# Altium schematic symbol library Lib Marius.SchLib: 259 symbols (part 2 of 3)
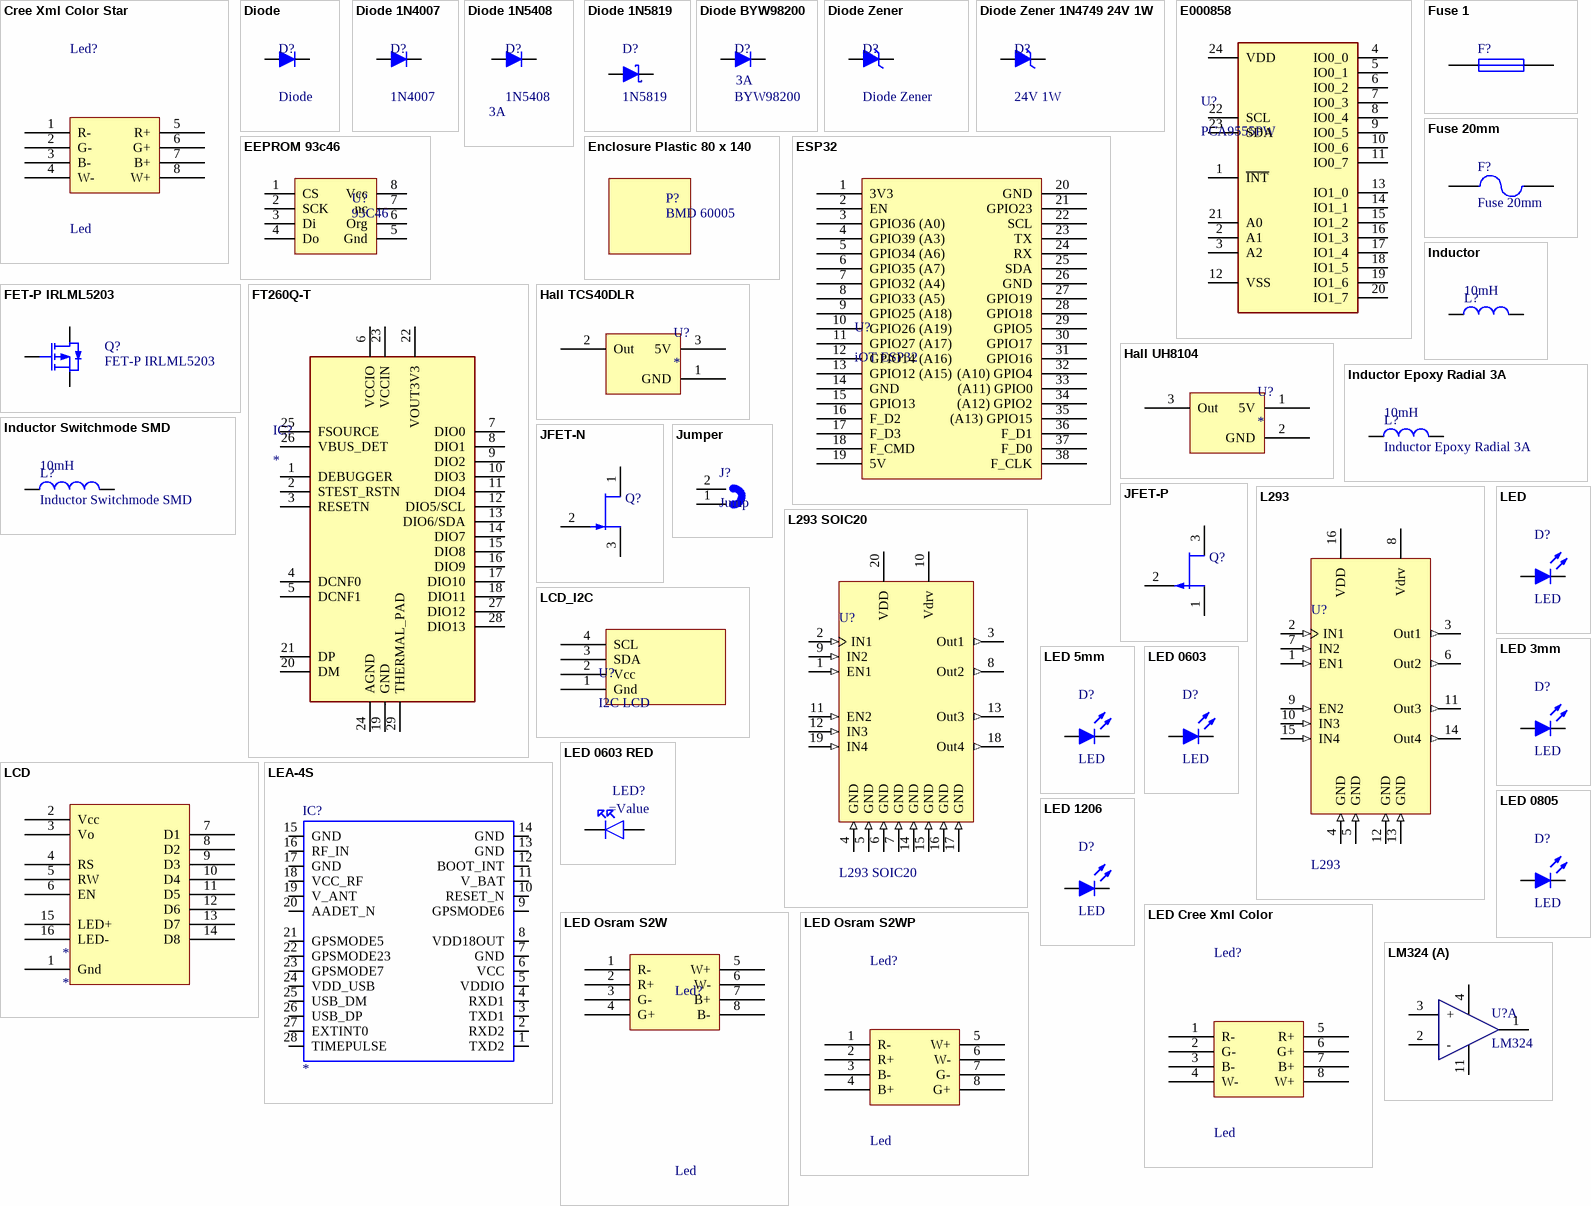
[diagram p7: symbols Cree Xml Color Star to LM324]

## Diode BYW98200
designator D?, comment BYW98200  value 3A
Rectifier Diode; Published: 8-Jun-2000; LatestRevisionDate: 17-Jul-2002; LatestRevisionNote: Re-released for DXP Platform.; PackageReference: SMB; Publisher: Altium Limited; PackageDescription: DO-214-AA/SMB; 2 C-Bend Leads; Body 5.3 x 3.6 mm, inc. leads (LxW); Code_JEDEC: DO-214-AA
footprint DIODE 12MM (Diode, Axial, DO-41)
footprint DIODE 7MM Vert (Diode, Thru-Hole; 2 Leads; 0.4 in Pin Spacing)
pins: 1 A, 2 K

## Diode Zener
designator D?
Zener Diode; Published: 8-Jun-2000; LatestRevisionDate: 17-Jul-2002; LatestRevisionNote: Re-released for DXP Platform.; PackageReference: SMB; Publisher: Altium Limited; PackageDescription: DO-214-AA/SMB; 2 C-Bend Leads; Body 5.3 x 3.6 mm, inc. leads (LxW); Code_JEDEC: DO-214-AA
simulation model SKYDIODE (Diode)
signal-integrity model D Schottky
footprint DIODE 12MM (Diode, Axial, DO-41)
footprint Diode SMD 0.5w (Metal Electrode Face (MELF) Diode; Body 3.5 x 1.7 mm (LxDia))
footprint Diode SMD 0805 (0805 Diode)
footprint DIODE SMD 1210
footprint DIODE SMD 1808
footprint DIODE 10.16MM (Diode, Thru-Hole; 2 Leads; 0.4 in Pin Spacing)
pins: 1 A, 2 K

## Diode Zener 1N4749 24V 1W
designator D?, comment 24V 1W
Zener Diode; Published: 8-Jun-2000; LatestRevisionDate: 17-Jul-2002; LatestRevisionNote: Re-released for DXP Platform.; PackageReference: SMB; Publisher: Altium Limited; PackageDescription: DO-214-AA/SMB; 2 C-Bend Leads; Body 5.3 x 3.6 mm, inc. leads (LxW); Code_JEDEC: DO-214-AA
simulation model SKYDIODE (Diode)
signal-integrity model D Schottky
footprint DIODE 7MM (Diode, Thru-Hole; 2 Leads; 0.4 in Pin Spacing)
pins: 1 A, 2 K

## E000858
designator U?, comment PCA9555PW
PCA9555PW I2C IO Expander; Manufacturer_Name: NXP; Manufacturer_Part_Number: PCA9555PW,112; Datasheet Link: http://at.rs-online.com/web/p/products/4837222P; Height: 1.1mm; RS Part Number: 4837222P; RS Price/Stock: http://at.rs-online.com/web/p/products/4837222P
footprint SOP65P640X110-24N
pins: 1 ~{INT}, 2 A1, 3 A2, 4 IO0_0, 5 IO0_1, 6 IO0_2, 7 IO0_3, 8 IO0_4, 9 IO0_5, 10 IO0_6, 11 IO0_7, 12 VSS, 13 IO1_0, 14 IO1_1, 15 IO1_2, 16 IO1_3, 17 IO1_4, 18 IO1_5, 19 IO1_6, 20 IO1_7, 21 A0, 22 SCL, 23 SDA, 24 VDD

## EEPROM 93c46
designator U?, comment 93C46
EEPROM; Published: 8-Jun-2000; LatestRevisionDate: 29-May-2009; LatestRevisionNote: IPC-7351 Footprint Added.; PackageVersion: Aug-1999; PackageReference: SOT-23B; Publisher: Altium Limited; PackageDescription: 3-Pin SOT-23 Package 0.95 mm Pitch, 2.4 mm Lead Span; Supplier 1: Newark; Supplier Part Number 1: 45J1498
footprint DIP-8 (DIP; 8 Leads; Row Spacing 7.62 mm; Pitch 2.54 mm)
pins: 1 CS, 2 SCK, 3 Di, 4 Do, 5 Gnd, 6 Org, 7 nc, 8 Vcc

## Enclosure Plastic 80 x 140
designator P?, comment BMD 60005
Mantech BMD 60005; Published: 8-Jun-2000; LatestRevisionDate: 29-May-2009; LatestRevisionNote: IPC-7351 Footprint Added.; PackageVersion: Aug-1999; PackageReference: SOT-23B; Publisher: Altium Limited; PackageDescription: 3-Pin SOT-23 Package 0.95 mm Pitch, 2.4 mm Lead Span; Supplier 1: Newark; Supplier Part Number 1: 45J1498
footprint Enclosure 80 x 130 (Mantech BMD60005)

## ESP32
designator U?, comment iOT ESP32
footprint ESP32 (Potentiometer Vertical)
pins: 1 3V3, 2 EN, 3 GPIO36 (A0), 4 GPIO39 (A3), 5 GPIO34 (A6), 6 GPIO35 (A7), 7 GPIO32 (A4), 8 GPIO33 (A5), 9 GPIO25 (A18), 10 GPIO26 (A19), 11 GPIO27 (A17), 12 GPIO14 (A16), 13 GPIO12 (A15), 14 GND, 15 GPIO13, 16 F_D2, 17 F_D3, 18 F_CMD, 19 5V, 20 GND, 21 GPIO23, 22 SCL, 23 TX, 24 RX, 25 SDA, 26 GND, 27 GPIO19, 28 GPIO18, 29 GPIO5, 30 GPIO17, 31 GPIO16, 32 (A10) GPIO4, 33 (A11) GPIO0, 34 (A12) GPIO2, 35 (A13) GPIO15, 36 F_D1, 37 F_D0, 38 F_CLK

## FET-P IRLML5203
designator Q?
P-Channel MESFET; Published: 8-Jun-2000; LatestRevisionDate: 17-Jul-2002; LatestRevisionNote: Re-released for DXP Platform.; PackageReference: TO-18; Publisher: Altium Limited; PackageDescription: Can; 3 Leads; Pin Circle Dia. 2.54 mm; Lead Dia. 0.48 mm (max); Code_JEDEC: TO-18
simulation model PMESFET (MESFET-P)
footprint SOT23 (SOT23, 3-Leads, Body 2.9x1.3mm, Pitch 0.95mm, Lead Span 2.3mm - Reverse Pinning, IPC Low Density)
pins: 1 D, 2 S (power), 3 G (power)

## FT260Q-T
designator IC?
Integrated Circuit; Manufacturer_Name: FTDI Chip; Manufacturer_Part_Number: FT260Q-T; Datasheet Link: http://uk.rs-online.com/web/p/products/1107094P; Height: 0.8mm; RS Part Number: 1107094P; RS Price/Stock: http://uk.rs-online.com/web/p/products/1107094P
footprint QFN50P500X500X80-29N-D
pins: 1 DEBUGGER, 2 STEST_RSTN, 3 RESETN, 4 DCNF0, 5 DCNF1, 6 VCCIO, 7 DIO0, 8 DIO1, 9 DIO2, 10 DIO3, 11 DIO4, 12 DIO5/SCL, 13 DIO6/SDA, 14 DIO7, 15 DIO8, 16 DIO9, 17 DIO10, 18 DIO11, 19 GND, 20 DM, 21 DP, 22 VOUT3V3, 23 VCCIN, 24 AGND, 25 FSOURCE, 26 VBUS_DET, 27 DIO12, 28 DIO13, 29 THERMAL_PAD

## Fuse 1
designator F?
Fuse; Published: 8-Jun-2000; LatestRevisionDate: 17-Jul-2002; LatestRevisionNote: Re-released for DXP Platform.; PackageReference: PIN-W2/E2.8; Publisher: Altium Limited; PackageDescription: Thru-Hole; 2 Leads
footprint PIN-W2/E2.8 (Thru-Hole; 2 Leads)
simulation model FUSE (Spice Subcircuit)
pins: 1, 2

## Fuse 20mm
designator F?
Published: 8-Jun-2000; LatestRevisionDate: 17-Jul-2002; LatestRevisionNote: Re-released for DXP Platform.; PackageReference: PIN-W2/E2.8; Publisher: Altium Limited; PackageDescription: Thru-Hole; 2 Leads
simulation model FUSE (Spice Subcircuit)
footprint FuseHolder 20mm (Fuse holder for Kingstone 3AG fuse 1/4" x 1 1/4")
pins: 1, 2

## Hall TCS40DLR
designator U?
footprint SOT23 (SOT23, 3-Leads, Body 2.9x1.3mm, Pitch 0.95mm, Lead Span 2.3mm - Reverse Pinning, IPC Low Density)
pins: 1 GND, 2 Out, 3 5V

## Hall UH8104
designator U?
footprint TO 92 (TO, Flat Index; 3 In-Line, Axial Leads; Body Dia. 4.5mm; Leads 0.51 x 0.48 mm (max))
pins: 1 5V, 2 GND, 3 Out

## Inductor
designator L?  value 10mH
Inductor; Code_IEC: 1005; Published: 8-Jun-2000; LatestRevisionDate: 29-May-2009; LatestRevisionNote: IPC-7351 Footprint Added.; PackageReference: 0402-A; Publisher: Altium Limited; PackageDescription: Chip Inductor; Code_JEITA: 0402
simulation model INDUCTOR (Inductor)
signal-integrity model Inductor
footprint INDUCTOR DO3316 (Power Inductor DO3316 Coilcraft)
footprint INDUCTOR 0402 (Chip Inductor, 2-Leads, Body 1.0x0.5mm, IPC Medium Density)
footprint INDUCTOR 0603 (Chip Inductor, 2-Leads, Body 1.6x0.8mm, IPC Medium Density)
footprint INDUCTOR 0805 (Chip Inductor, 2-Leads, Body 2.0x1.3mm, IPC Medium Density)
footprint INDUCTOR 1206 (Chip Inductor, 2-Leads, Body 3.2x1.6mm, IPC Medium Density)
footprint INDUCTOR 1806 (Chip Inductor, 2-Leads, Body 4.5x1.6mm, IPC Medium Density)
footprint INDUCTOR 1812 (Chip Inductor, 2-Leads, Body 4.6x3.3mm, IPC Medium Density)
footprint INDUCTOR WOUND 8x20 (Inductor 10 Turns)
footprint INDUCTOR WOUND 10x25 (Inductor 10 Turns)
footprint Inductor Wound 16x10 (Inductor Coil)
pins: 1, 2

## Inductor Epoxy Radial 3A
designator L?  value 10mH
Inductor; Code_IEC: 1005; Published: 8-Jun-2000; LatestRevisionDate: 29-May-2009; LatestRevisionNote: IPC-7351 Footprint Added.; PackageReference: 0402-A; Publisher: Altium Limited; PackageDescription: Chip Inductor; Code_JEITA: 0402
footprint Inductor Epoxy (Inductor 3A)
pins: 1, 2

## Inductor Switchmode SMD
designator L?  value 10mH
Inductor; Code_IEC: 1005; Published: 8-Jun-2000; LatestRevisionDate: 29-May-2009; LatestRevisionNote: IPC-7351 Footprint Added.; PackageReference: 0402-A; Publisher: Altium Limited; PackageDescription: Chip Inductor; Code_JEITA: 0402
footprint Inductor SMD 400mA 5.8x5.2mm
footprint INDUCTOR DO3316 (Power Inductor DO3316 Coilcraft)
pins: 1, 2

## JFET-N
designator Q?
N-Channel JFET; Published: 8-Jun-2000; LatestRevisionDate: 17-Jul-2002; LatestRevisionNote: Re-released for DXP Platform.; PackageReference: TO-254-AA; Publisher: Altium Limited; Code_JEDEC: TO-254-AA
footprint TO-254-AA (TO, Thru-Hole, Vertical, Heatsink Mounted; 3 In-Line Leads; Pitch 3.81 mm)
simulation model NJFET
pins: 1 D, 2 G, 3 S

## JFET-P
designator Q?
P-Channel JFET; Published: 8-Jun-2000; LatestRevisionDate: 17-Jul-2002; LatestRevisionNote: Re-released for DXP Platform.; PackageReference: TO-18A; Publisher: Altium Limited; PackageDescription: SC-89; 3 Flat Leads; Body 1.6 x 1.6 x 0.7 mm, inc leads (LxWxH typ)
footprint TO-18A (SC-89; 3 Flat Leads; Body 1.6 x 1.6 x 0.7 mm, inc leads (LxWxH typ))
simulation model PJFET
pins: 1 D, 2 G, 3 S

## Jumper
designator J?, comment Jump
footprint Jumper Pad (Jumper pads)
footprint HDR1X2 (Connector; Header; 2 Position)
pins: 1, 2

## L293
designator U?
H-Bridge; Published: 17-Jul-2002; LatestRevisionDate: 06-Jun-2005; LatestRevisionNote: Stylized 3D Model Added; DatasheetVersion: 1989; PackageReference: 620-09; Publisher: Altium Limited; PackageDescription: DIP; 16 Leads; Row Spacing 7.62 mm; Pitch 2.54 mm; Code_JEDEC: MS-001-BB; ComponentLink1Description: Manufacturer Link; ComponentLink1URL: http://www.onsemi.com/site/products/parametrics/0,4446,557,00.html
footprint DIP-16 (DIP; 16 Leads; Row Spacing 7.62 mm; Pitch 2.54 mm)
pins: 1 EN1 (in), 2 IN1 (in), 3 Out1 (out), 4 GND (in), 5 GND (in), 6 Out2 (out), 7 IN2 (in), 8 Vdrv (power), 9 EN2 (in), 10 IN3 (in), 11 Out3 (out), 12 GND (in), 13 GND (in), 14 Out4 (out), 15 IN4 (in), 16 VDD (power)

## L293 SOIC20
designator U?
H-Bridge; Published: 17-Jul-2002; LatestRevisionDate: 06-Jun-2005; LatestRevisionNote: Stylized 3D Model Added; DatasheetVersion: 1989; PackageReference: 620-09; Publisher: Altium Limited; PackageDescription: DIP; 16 Leads; Row Spacing 7.62 mm; Pitch 2.54 mm; Code_JEDEC: MS-001-BB; ComponentLink1Description: Manufacturer Link; ComponentLink1URL: http://www.onsemi.com/site/products/parametrics/0,4446,557,00.html
footprint SOIC 20 (SOIC, 20-Leads, Body 12.8x7.5mm, Pitch 1.27mm, IPC Low Density)
pins: 1 EN1 (in), 2 IN1 (in), 3 Out1 (out), 4 GND (in), 5 GND (in), 6 GND (in), 7 GND (in), 8 Out2 (out), 9 IN2 (in), 10 Vdrv (power), 11 EN2 (in), 12 IN3 (in), 13 Out3 (out), 14 GND (in), 15 GND (in), 16 GND (in), 17 GND (in), 18 Out4 (out), 19 IN4 (in), 20 VDD (power)

## LCD
designator *
footprint LCD 2x16 (LCD 2 x 16)
pins: 1 Gnd, 2 Vcc, 3 Vo, 4 RS, 5 RW, 6 EN, 7 D1, 8 D2, 9 D3, 10 D4, 11 D5, 12 D6, 13 D7, 14 D8, 15 LED+, 16 LED-

## LCD_I2C
designator U?, comment I2C LCD
footprint LCD 2x16 I2C (LCD 2 x 16 i2c)
footprint CON HDR1X4 (Connector, Header, Vertical: Lead Span 2.54mm; Lead Width 0.52; Pin Pitch 2.54; 4 X 1 Pins)
pins: 1 Gnd, 2 Vcc, 3 SDA, 4 SCL

## LEA-4S
designator IC?
pins: 1 TXD2, 2 RXD2, 3 TXD1, 4 RXD1, 5 VDDIO, 6 VCC (power), 7 GND (power), 8 VDD18OUT (power), 9 GPSMODE6, 10 RESET_N, 11 V_BAT, 12 BOOT_INT, 13 GND (power), 14 GND (power), 15 GND (power), 16 RF_IN, 17 GND (power), 18 VCC_RF, 19 V_ANT, 20 AADET_N, 21 GPSMODE5, 22 GPSMODE23, 23 GPSMODE7, 24 VDD_USB, 25 USB_DM, 26 USB_DP, 27 EXTINT0, 28 TIMEPULSE

## LED
designator D?
Published: 8-Jun-2000; LatestRevisionDate: 08-Jul-2005; LatestRevisionNote: Mech Layer 1 removed.; PackageReference: LED-0; Publisher: Altium Limited; PackageDescription: LED; 2 Leads
simulation model LED0 (Diode)
footprint LED 3mm Green
footprint LED 3mm Red
footprint LED 3mm Yellow
footprint LED 5mm Green
footprint LED 5mm Red
footprint LED 5mm Yellow
footprint LED 1206 Green
footprint LED 1206 Red
footprint LED 1206 Yellow
footprint LED 3mm Red - Holder 90deg (LED 3mm Green)
footprint LED 3mm Green - Holder 90deg (LED 3mm Green)
pins: 1 A, 2 K

## LED 3mm
designator D?, comment LED
Published: 8-Jun-2000; LatestRevisionDate: 08-Jul-2005; LatestRevisionNote: Mech Layer 1 removed.; PackageReference: LED-0; Publisher: Altium Limited; PackageDescription: LED; 2 Leads
simulation model LED0 (Diode)
footprint LED 3mm Green
footprint LED 3mm Red
footprint LED 3mm Yellow
pins: 1 A, 2 K

## LED 5mm
designator D?, comment LED
Published: 8-Jun-2000; LatestRevisionDate: 08-Jul-2005; LatestRevisionNote: Mech Layer 1 removed.; PackageReference: LED-0; Publisher: Altium Limited; PackageDescription: LED; 2 Leads
simulation model LED0 (Diode)
footprint LED 5mm Green
footprint LED 5mm Red
footprint LED 5mm Yellow
pins: 1 A, 2 K

## LED 0603
designator D?, comment LED
Published: 8-Jun-2000; LatestRevisionDate: 08-Jul-2005; LatestRevisionNote: Mech Layer 1 removed.; PackageReference: LED-0; Publisher: Altium Limited; PackageDescription: LED; 2 Leads
simulation model LED0 (Diode)
footprint LED 0603 (0603 LED)
pins: 1 A, 2 K

## LED 0603 RED
designator LED?
footprint LED 0603 Red (LED 0603)
pins: 1 A, 2 K

## LED 0805
designator D?, comment LED
Published: 8-Jun-2000; LatestRevisionDate: 08-Jul-2005; LatestRevisionNote: Mech Layer 1 removed.; PackageReference: LED-0; Publisher: Altium Limited; PackageDescription: LED; 2 Leads
simulation model LED0 (Diode)
footprint LED 0805 (0805 LED)
pins: 1 A, 2 K

## LED 1206
designator D?, comment LED
Published: 8-Jun-2000; LatestRevisionDate: 08-Jul-2005; LatestRevisionNote: Mech Layer 1 removed.; PackageReference: LED-0; Publisher: Altium Limited; PackageDescription: LED; 2 Leads
simulation model LED0 (Diode)
footprint LED 1206 Green
footprint LED 1206 Red
footprint LED 1206 Yellow
pins: 1 A, 2 K

## LED Cree Xml Color
designator Led?, comment Led
Cree Xml Color; Published: 17-Jul-2002; LatestRevisionDate: 06-Jun-2005; LatestRevisionNote: Stylized 3D Model Added; DatasheetVersion: 1989; PackageReference: 632-08; Publisher: Altium Limited; PackageDescription: DIP; 14 Leads; Row Spacing 7.62 mm; Pitch 2.54 mm; ComponentLink1Description: Manufacturer Link; ComponentLink1URL: http://www.onsemi.com/site/products/parametrics/0,4446,557,00.html
footprint LED CREE XML COLOR (Osram RGBW LED)
pins: 1 R-, 2 G-, 3 B-, 4 W-, 5 R+, 6 G+, 7 B+, 8 W+

## LED Osram S2W
designator Led?, comment Led
Osram S2W LED; Published: 17-Jul-2002; LatestRevisionDate: 06-Jun-2005; LatestRevisionNote: Stylized 3D Model Added; DatasheetVersion: 1989; PackageReference: 632-08; Publisher: Altium Limited; PackageDescription: DIP; 14 Leads; Row Spacing 7.62 mm; Pitch 2.54 mm; ComponentLink1Description: Manufacturer Link; ComponentLink1URL: http://www.onsemi.com/site/products/parametrics/0,4446,557,00.html
footprint LED OSRAM S2W (Osram RGBW LED)
pins: 1 R-, 2 R+, 3 G-, 4 G+, 5 W+, 6 W-, 7 B+, 8 B-

## LED Osram S2WP
designator Led?, comment Led
Osram S2WP LED; Published: 17-Jul-2002; LatestRevisionDate: 06-Jun-2005; LatestRevisionNote: Stylized 3D Model Added; DatasheetVersion: 1989; PackageReference: 632-08; Publisher: Altium Limited; PackageDescription: DIP; 14 Leads; Row Spacing 7.62 mm; Pitch 2.54 mm; ComponentLink1Description: Manufacturer Link; ComponentLink1URL: http://www.onsemi.com/site/products/parametrics/0,4446,557,00.html
footprint LED OSRAM S2WP (Osram RGBW LED)
pins: 1 R-, 2 R+, 3 B-, 4 B+, 5 W+, 6 W-, 7 G-, 8 G+

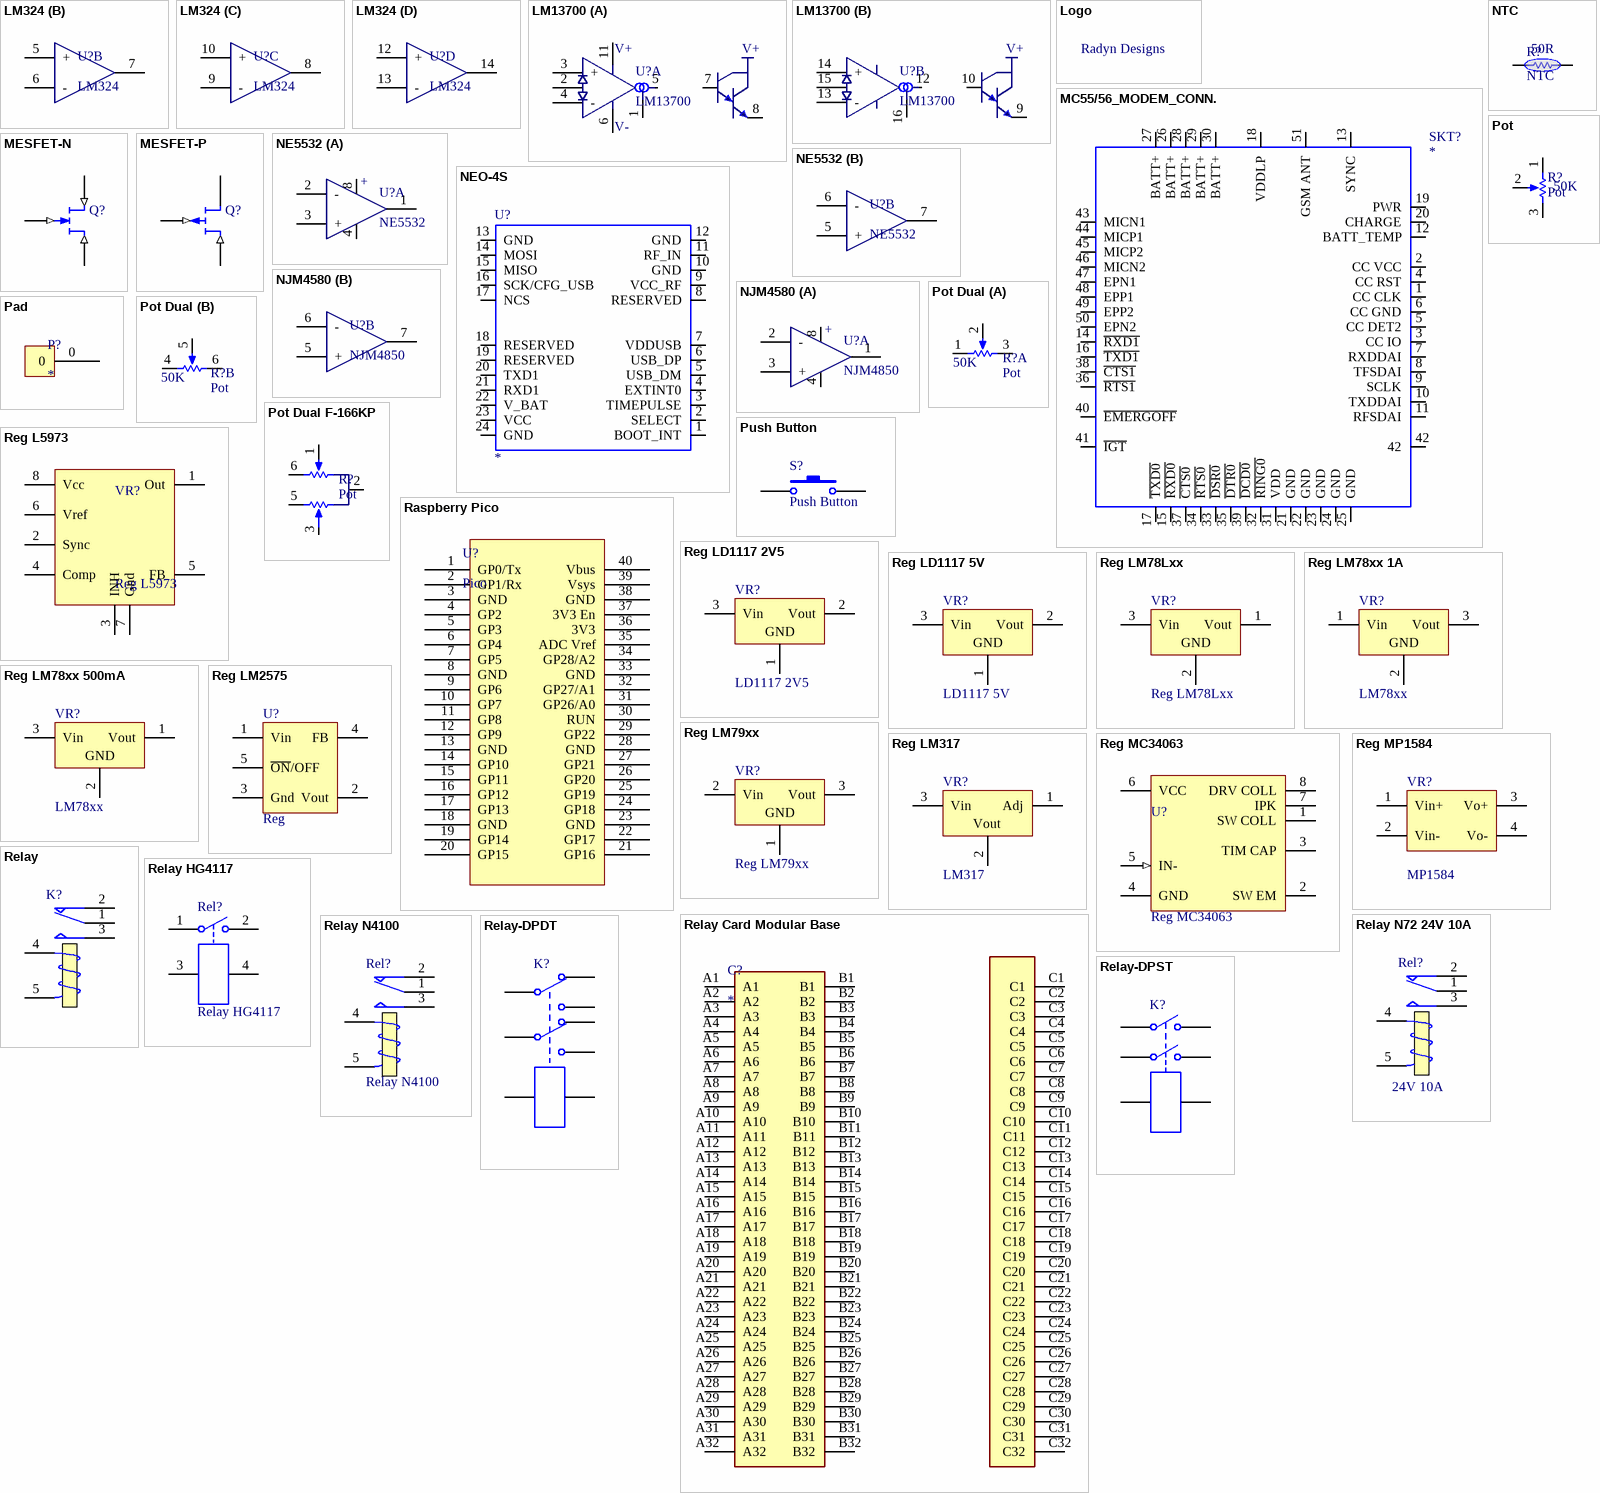
[diagram p4: symbols LM324 to Relay-DPST]

## LM324
designator U?
footprint DIP-14 (DIP; 14 Leads; Row Spacing 7.62 mm; Pitch 2.54 mm)
footprint SOIC 14 (SOIC, 14-Leads, Body 8.8x4.0mm (max), Pitch 1.27mm, IPC Medium Density)
part A pins: 1 OP, 2 -, 3 +, 4 Vcc, 11 Gnd
part B pins: 5 +, 6 -, 7 OP
part C pins: 8 OP, 9 -, 10 +
part D pins: 12 +, 13 -, 14 OP

## LM13700
designator U?
footprint SOIC 16 (SOIC, 16-Leads, Body 10.0x4.0mm (max), Pitch 1.27mm, IPC Medium Density)
footprint DIP-16 (DIP; 16 Leads; Row Spacing 7.62 mm; Pitch 2.54 mm)
part A pins: 1 Amp Bias, 2 Diode Bias, 3 +, 4 -, 5 OP, 6 V+, 7 Input Buffer, 8 Output Buffer, 11 V+
part B pins: 9 Output Buffer, 10 Input Buffer, 12 OP, 13 -, 14 +, 15 Diode Bias, 16 Amp Bias
part A text: V-

## Logo
designator x?  (value not drawn)
Published: 8-Jun-2000; LatestRevisionDate: 17-Jul-2002; LatestRevisionNote: Re-released for DXP Platform.; PackageReference: SMB; Publisher: Altium Limited; PackageDescription: DO-214-AA/SMB; 2 C-Bend Leads; Body 5.3 x 3.6 mm, inc. leads (LxW); Code_JEDEC: DO-214-AA
footprint Logo (Radyn Designs Logo)
text: Radyn Designs

## MC55/56_MODEM_CONN.
designator SKT?
footprint MC55i Con
pins: 1 CC CLK, 2 CC VCC, 3 CC IO, 4 CC RST, 5 CC DET2, 6 CC GND, 7 RXDDAI, 8 TFSDAI, 9 SCLK, 10 TXDDAI, 11 RFSDAI, 12 BATT_TEMP, 13 SYNC, 14 ~{RXD1}, 15 ~{RXD0}, 16 ~{TXD1}, 17 ~{TXD0}, 18 VDDLP, 19 PWR, 20 CHARGE, 21 GND, 22 GND, 23 GND, 24 GND, 25 GND, 26 BATT+, 27 BATT+, 28 BATT+, 29 BATT+, 30 BATT+, 31 VDD, 32 ~{RING0}, 33 ~{DSR0}, 34 ~{RTS0}, 35 ~{DTR0}, 36 ~{RTS1}, 37 ~{CTS0}, 38 ~{CTS1}, 39 ~{DCD0}, 40 ~{EMERGOFF}, 41 ~{IGT}, 42, 43 MICN1, 44 MICP1, 45 MICP2, 46 MICN2, 47 EPN1, 48 EPP1, 49 EPP2, 50 EPN2, 51 GSM ANT

## MESFET-N
designator Q?
N-Channel MESFET; Published: 8-Jun-2000; LatestRevisionDate: 17-Jul-2002; LatestRevisionNote: Re-released for DXP Platform.; PackageReference: TO-18; Publisher: Altium Limited; PackageDescription: Can; 3 Leads; Pin Circle Dia. 2.54 mm; Lead Dia. 0.48 mm (max); Code_JEDEC: TO-18
footprint TO-18 (Can; 3 Leads; Pin Circle Dia. 2.54 mm; Lead Dia. 0.48 mm (max))
simulation model NMESFET (MESFET-N)
pins: 1 D (in), 2 G (in), 3 S (in)

## MESFET-P
designator Q?
P-Channel MESFET; Published: 8-Jun-2000; LatestRevisionDate: 17-Jul-2002; LatestRevisionNote: Re-released for DXP Platform.; PackageReference: TO-18; Publisher: Altium Limited; PackageDescription: Can; 3 Leads; Pin Circle Dia. 2.54 mm; Lead Dia. 0.48 mm (max); Code_JEDEC: TO-18
footprint TO-18 (Can; 3 Leads; Pin Circle Dia. 2.54 mm; Lead Dia. 0.48 mm (max))
simulation model PMESFET (MESFET-P)
pins: 1 D (in), 2 G (in), 3 S

## NE5532
designator U?
footprint SOIC 8 (SOIC, 8-Leads, Body 5.0x4.0mm (max), Pitch 1.27mm, IPC Medium Density)
footprint DIP-8 (DIP; 8 Leads; Row Spacing 7.62 mm; Pitch 2.54 mm)
part A pins: 1 OP, 2 -, 3 +, 4 Vcc, 8 Gnd
part B pins: 5 +, 6 -, 7 OP

## NEO-4S
designator U?
footprint NEO-4S
pins: 1 BOOT_INT, 2 SELECT, 3 TIMEPULSE, 4 EXTINT0, 5 USB_DM, 6 USB_DP, 7 VDDUSB (power), 8 RESERVED, 9 VCC_RF (power), 10 GND (power), 11 RF_IN, 12 GND (power), 13 GND (power), 14 MOSI, 15 MISO, 16 SCK/CFG_USB, 17 NCS, 18 RESERVED, 19 RESERVED, 20 TXD1, 21 RXD1, 22 V_BAT (power), 23 VCC (power), 24 GND (power)

## NJM4580
designator U?, comment NJM4850
footprint SOIC 8 (SOIC, 8-Leads, Body 5.0x4.0mm (max), Pitch 1.27mm, IPC Medium Density)
footprint DIP-8 (DIP; 8 Leads; Row Spacing 7.62 mm; Pitch 2.54 mm)
part A pins: 1 OP, 2 -, 3 +, 4 Vcc, 8 Gnd
part B pins: 5 +, 6 -, 7 OP

## NTC
designator R?  value 50R
Resistor; Published: 8-Jun-2000; LatestRevisionDate: 17-Jul-2002; LatestRevisionNote: Re-released for DXP Platform.; PackageReference: AXIAL-0.3; Publisher: Altium Limited; PackageDescription: Axial Device, Thru-Hole; 2 Leads; 0.3 in Pin Spacing
footprint Cap Ceramic 0.1uF (Capacitor Ceramic)
pins: 1, 2

## Pad
designator P?
footprint Pad
pins: 0

## Pot
designator R?  value 50K
Potentiometer; Sim Note: Enter the Resistance value and the set point into parameter fields.; Set Position: 0.5; Published: 8-Jun-2000; LatestRevisionDate: 17-Jul-2002; LatestRevisionNote: Re-released for DXP Platform.; PackageReference: VR5; Publisher: Altium Limited; PackageDescription: Variable Resistor, Thru-Hole; 3 Leads
simulation model POT (Potentiometer)
footprint POT VERT MULTI TURN (Potentiometer Vertical)
footprint POT VERT SINGLE TURN (Potentiometer Horisontal)
footprint POT Single (Potentiometer Vertical)
pins: 1 TOP, 2 BOT, 3 TAP
1 alternate drawing of the same symbol

## Pot Dual
designator R?, comment Pot  value 50K
Potentiometer; Sim Note: Enter the Resistance value and the set point into parameter fields.; Set Position: 0.5; Published: 8-Jun-2000; LatestRevisionDate: 17-Jul-2002; LatestRevisionNote: Re-released for DXP Platform.; PackageReference: Pot Dual F-166KP; Publisher: Altium Limited; PackageDescription: Variable Resistor, Thru-Hole; 3 Leads
footprint POT DUAL F-16KG (Potentiometer Vertical)
part A pins: 1 TAP, 2 BOT, 3 TOP
part B pins: 4 TAP, 5 BOT, 6 TOP
1 alternate drawing of the same symbol

## Pot Dual F-166KP
designator R?, comment Pot
Potentiometer; Sim Note: Enter the Resistance value and the set point into parameter fields.; Set Position: 0.5; Published: 8-Jun-2000; LatestRevisionDate: 17-Jul-2002; LatestRevisionNote: Re-released for DXP Platform.; PackageReference: Pot Dual F-166KP; Publisher: Altium Limited; PackageDescription: Variable Resistor, Thru-Hole; 3 Leads
footprint POT DUAL F-166KP (Potentiometer Horisontal)
pins: 1 BOT, 2 TOP, 3 BOT, 5 TAP, 6 TAP
1 alternate drawing of the same symbol

## Push Button
designator S?
Switch; Published: 24-Mar-1999; LatestRevisionDate: 17-Jul-2002; LatestRevisionNote: Re-released for DXP Platform.; PackageReference: SPST-2; Publisher: Altium Limited; PackageDescription: Switch; 2 Leads
footprint Button Tack 5mm (Axial Device, Thru-Hole; 2 Leads; 10.2mm Pin Spacing)
footprint Button Tack 5mm SMD (Axial Device, Thru-Hole; 2 Leads; 10.2mm Pin Spacing)
footprint Button Tack 5mm SMD Low Profile (Axial Device, Thru-Hole; 2 Leads; 10.2mm Pin Spacing)
pins: 1, 2

## Raspberry Pico
designator U?, comment Pico
footprint Raspberry Pico (Pico)
pins: 1 GP0/Tx, 2 GP1/Rx, 3 GND, 4 GP2, 5 GP3, 6 GP4, 7 GP5, 8 GND, 9 GP6, 10 GP7, 11 GP8, 12 GP9, 13 GND, 14 GP10, 15 GP11, 16 GP12, 17 GP13, 18 GND, 19 GP14, 20 GP15, 21 GP16, 22 GP17, 23 GND, 24 GP18, 25 GP19, 26 GP20, 27 GP21, 28 GND, 29 GP22, 30 RUN, 31 GP26/A0, 32 GP27/A1, 33 GND, 34 GP28/A2, 35 ADC Vref, 36 3V3, 37 3V3 En, 38 GND, 39 Vsys, 40 Vbus

## Reg L5973
designator VR?
Voltage Regulator Switch Mode 2.5A; Published: 24-Mar-1999; LatestRevisionDate: 29-May-2009; LatestRevisionNote: IPC-7351 Footprint Added.; PackageReference: D2PAK; Publisher: Altium Limited; PackageDescription: 3-Pin Transistor Outline Package 2.54 mm Pitch, 15.1 mm Lead Span
footprint SOIC 8 (SOIC, 8-Leads, Body 5.0x4.0mm (max), Pitch 1.27mm, IPC Medium Density)
pins: 1 Out, 2 Sync, 3 INH, 4 Comp, 5 FB, 6 Vref, 7 Gnd, 8 Vcc

## Reg LD1117 2V5
designator VR?, comment LD1117 2V5
Voltage Regulator; Published: 24-Mar-1999; LatestRevisionDate: 29-May-2009; LatestRevisionNote: IPC-7351 Footprint Added.; PackageReference: D2PAK; Publisher: Altium Limited; PackageDescription: 3-Pin Transistor Outline Package 2.54 mm Pitch, 15.1 mm Lead Span
footprint SOT223 (SOT223, 4-Leads, Body 6.5x3.5mm, Pitch 2.3mm, Lead Span 7mm, IPC Low Density)
pins: 1 GND, 2 Vout, 3 Vin

## Reg LD1117 5V
designator VR?, comment LD1117 5V
Voltage Regulator; Published: 24-Mar-1999; LatestRevisionDate: 29-May-2009; LatestRevisionNote: IPC-7351 Footprint Added.; PackageReference: D2PAK; Publisher: Altium Limited; PackageDescription: 3-Pin Transistor Outline Package 2.54 mm Pitch, 15.1 mm Lead Span
footprint SOT223 (SOT223, 4-Leads, Body 6.5x3.5mm, Pitch 2.3mm, Lead Span 7mm, IPC Low Density)
pins: 1 GND, 2 Vout, 3 Vin

## Reg LM78Lxx
designator VR?
Voltage Regulator; Published: 24-Mar-1999; LatestRevisionDate: 29-May-2009; LatestRevisionNote: IPC-7351 Footprint Added.; PackageReference: D2PAK; Publisher: Altium Limited; PackageDescription: 3-Pin Transistor Outline Package 2.54 mm Pitch, 15.1 mm Lead Span
footprint TO 92 (TO, Flat Index; 3 In-Line, Axial Leads; Body Dia. 4.5mm; Leads 0.51 x 0.48 mm (max))
pins: 1 Vout, 2 GND, 3 Vin

## Reg LM78xx 1A
designator VR?, comment LM78xx
Voltage Regulator; Published: 24-Mar-1999; LatestRevisionDate: 29-May-2009; LatestRevisionNote: IPC-7351 Footprint Added.; PackageReference: D2PAK; Publisher: Altium Limited; PackageDescription: 3-Pin Transistor Outline Package 2.54 mm Pitch, 15.1 mm Lead Span
footprint TO 220 (TO, Thru-Hole, Vertical, Heatsink Mounted; 3 In-Line Leads; Pitch 2.54 mm)
footprint D2PAK3 (3 Pads)
pins: 1 Vin, 2 GND, 3 Vout

## Reg LM78xx 500mA
designator VR?, comment LM78xx
Voltage Regulator; Published: 24-Mar-1999; LatestRevisionDate: 29-May-2009; LatestRevisionNote: IPC-7351 Footprint Added.; PackageReference: D2PAK; Publisher: Altium Limited; PackageDescription: 3-Pin Transistor Outline Package 2.54 mm Pitch, 15.1 mm Lead Span
footprint TO 92 (TO, Flat Index; 3 In-Line, Axial Leads; Body Dia. 4.5mm; Leads 0.51 x 0.48 mm (max))
pins: 1 Vout, 2 GND, 3 Vin

## Reg LM79xx
designator VR?
Voltage Regulator; Published: 24-Mar-1999; LatestRevisionDate: 29-May-2009; LatestRevisionNote: IPC-7351 Footprint Added.; PackageReference: D2PAK; Publisher: Altium Limited; PackageDescription: 3-Pin Transistor Outline Package 2.54 mm Pitch, 15.1 mm Lead Span
footprint TO 220 (TO, Thru-Hole, Vertical, Heatsink Mounted; 3 In-Line Leads; Pitch 2.54 mm)
pins: 1 GND, 2 Vin, 3 Vout

## Reg LM317
designator VR?, comment LM317
Voltage Regulator; Published: 24-Mar-1999; LatestRevisionDate: 29-May-2009; LatestRevisionNote: IPC-7351 Footprint Added.; PackageReference: D2PAK; Publisher: Altium Limited; PackageDescription: 3-Pin Transistor Outline Package 2.54 mm Pitch, 15.1 mm Lead Span
footprint TO 220 (TO, Thru-Hole, Vertical, Heatsink Mounted; 3 In-Line Leads; Pitch 2.54 mm)
footprint D2PAK3 (3 Pads)
pins: 1 Adj, 2 Vout, 3 Vin

## Reg LM2575
designator U?, comment Reg
Switchmode Regulator; LatestRevisionDate: 17-Jul-2002; LatestRevisionNote: Re-released for DXP Platform.; Publisher: Altium Limited
signal-integrity model Connector
footprint DPAK 5 (D2-PAK, 6-Pads, Body 8.9x10.4mm (max), IPC Medium Density)
pins: 1 Vin, 2 Vout, 3 Gnd, 4 FB, 5 ~{ON}/OFF

## Reg MC34063
designator U?
Switchmode Regulator; Published: 15-Apr-2002; LatestRevisionDate: 13-Apr-2006; LatestRevisionNote: IPC-7351 Footprint Added.; DatasheetVersion: 1996; PackageVersion: 1998; PackageReference: 751-05; Publisher: Altium Limited; PackageDescription: 8-Pin Small Outline Integrated Circuit 1.27 mm Pitch; Code_JEDEC: MS-012-AA; Code_IPC: SOIC127P600-8; ComponentLink1Description: Manufacturer Link; ComponentLink1URL: http://www.onsemi.com/site/products/taxonomy/0,4438,503,00.html; ComponentLink2Description: Datasheet; ComponentLink2URL: http://www.onsemi.com/pub/Collateral/MC34063A-D.PDF
footprint SOIC 8 (SOIC, 8-Leads, Body 5.0x4.0mm (max), Pitch 1.27mm, IPC Medium Density)
pins: 1 SW COLL, 2 SW EM, 3 TIM CAP, 4 GND (power), 5 IN- (in), 6 VCC (power), 7 IPK, 8 DRV COLL (oc)

## Reg MP1584
designator VR?, comment MP1584
Switch mode Voltage Regulator; Published: 24-Mar-1999; LatestRevisionDate: 29-May-2009; LatestRevisionNote: IPC-7351 Footprint Added.; PackageReference: D2PAK; Publisher: Altium Limited; PackageDescription: 3-Pin Transistor Outline Package 2.54 mm Pitch, 15.1 mm Lead Span
footprint REG MP1584 (Buck regula2tor board)
pins: 1 Vin+, 2 Vin-, 3 Vo+, 4 Vo-

## Relay
designator K?
SPDT Relay; Published: 8-Jun-2000; LatestRevisionDate: 17-Jul-2002; LatestRevisionNote: Re-released for DXP Platform.; PackageReference: MODULE5B; Publisher: Altium Limited
footprint MODULE5B (DIP; 5 Round Pins; Row Space 15.24 mm; Pitch 2.54 mm)
simulation model SPDTRELAY (Spice Subcircuit)
pins: 1 COM, 2 NC, 3 NO, 4 T1, 5 T2

## Relay Card Modular Base
designator C?
footprint RELAY CARD MODULAR BASE
pins: A1, A2, A3, A4, A5, A6, A7, A8, A9, A10, A11, A12, A13, A14, A15, A16, A17, A18, A19, A20, A21, A22, A23, A24, A25, A26, A27, A28, A29, A30, A31, A32, B1, B2, B3, B4, B5, B6, B7, B8, B9, B10, B11, B12, B13, B14, B15, B16, B17, B18, B19, B20, B21, B22, B23, B24, B25, B26, B27, B28, B29, B30, B31, B32, C1, C2, C3, C4, C5, C6, C7, C8, C9, C10, C11, C12, C13, C14, C15, C16, C17, C18, C19, C20, C21, C22, C23, C24, C25, C26, C27, C28, C29, C30, C31, C32

## Relay HG4117
designator Rel?
SDST Relay; Published: 24-Mar-1999; LatestRevisionDate: 17-Jul-2002; LatestRevisionNote: Re-released for DXP Platform.; PackageReference: MODULE4; Publisher: Altium Limited
simulation model SPSTRELAY (Spice Subcircuit)
footprint Relay HG4117 (10A 12V Relay)
pins: 1, 2, 3, 4

## Relay N72 24V 10A
designator Rel?, comment value 24V 10A  (hidden comment: Relay NT72)
SPDT Relay; Published: 8-Jun-2000; LatestRevisionDate: 17-Jul-2002; LatestRevisionNote: Re-released for DXP Platform.; PackageReference: MODULE5B; Publisher: Altium Limited
simulation model SPDTRELAY (Spice Subcircuit)
footprint Relay NT72 24V 10A (10A 24V STDP Relay)
pins: 1 COM, 2 NC, 3 NO, 4 T1, 5 T2

## Relay N4100
designator Rel?
SPDT Relay; Published: 8-Jun-2000; LatestRevisionDate: 17-Jul-2002; LatestRevisionNote: Re-released for DXP Platform.; PackageReference: MODULE5B; Publisher: Altium Limited
simulation model SPDTRELAY (Spice Subcircuit)
footprint Relay N4100 (3A 12V Relay)
pins: 1 COM, 2 NC, 3 NO, 4 T1, 5 T2

## Relay-DPDT
designator K?
Dual-Pole Dual-Throw Relay; Published: 24-Mar-1999; LatestRevisionDate: 17-Jul-2002; LatestRevisionNote: Re-released for DXP Platform.; PackageReference: DIP-P8; Publisher: Altium Limited; PackageDescription: Relay; 8 Leads
footprint DIP-P8 (Dual-Pole Dual-Throw Relay; 8 Leads)
simulation model DPDTRELAY (Spice Subcircuit)
pins: 1, 2, 3, 4, 5, 6, 7, 8

## Relay-DPST
designator K?
Dual-Pole Single-Throw Relay; Published: 24-Mar-1999; LatestRevisionDate: 17-Jul-2002; LatestRevisionNote: Re-released for DXP Platform.; PackageReference: MODULE6; Publisher: Altium Limited
footprint MODULE6 (DIP; 6 Round Pins; Row Space 20.32 mm; Pitch 2.54 mm)
simulation model DPSTRELAY (Spice Subcircuit)
pins: 1, 2, 3, 4, 5, 6

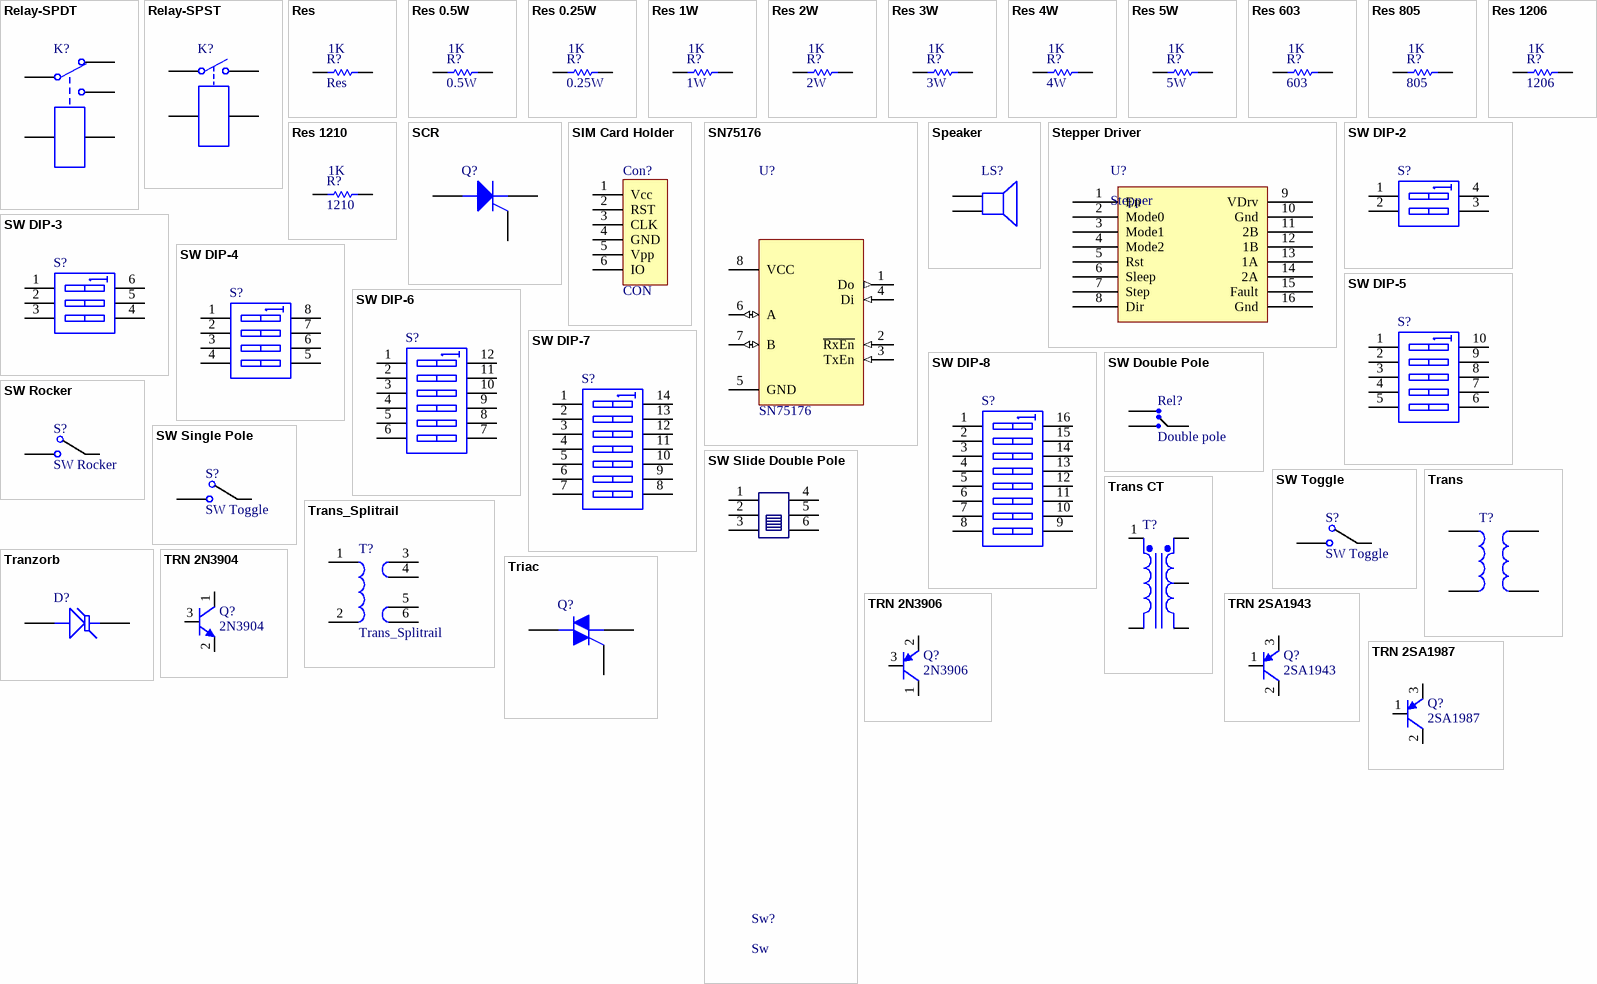
[diagram p5: symbols Relay-SPDT to TRN 2SA1987]

## Relay-SPDT
designator K?
Single-Pole Dual-Throw Relay; Published: 24-Mar-1999; LatestRevisionDate: 17-Jul-2002; LatestRevisionNote: Re-released for DXP Platform.; PackageReference: MODULE5B; Publisher: Altium Limited
footprint MODULE5B (DIP; 5 Round Pins; Row Space 15.24 mm; Pitch 2.54 mm)
simulation model SPDTRELAY (Spice Subcircuit)
pins: 1, 2, 3, 4, 5

## Relay-SPST
designator K?
Single-Pole Single-Throw Relay; Published: 24-Mar-1999; LatestRevisionDate: 17-Jul-2002; LatestRevisionNote: Re-released for DXP Platform.; PackageReference: MODULE4; Publisher: Altium Limited
footprint MODULE4 (DIP; 4 Round Pins; Row Space 27.94 mm; Pitch 15.24 mm)
simulation model SPSTRELAY (Spice Subcircuit)
pins: 1, 2, 3, 4

## Res
designator R?  value 1K
Resistor; Published: 8-Jun-2000; LatestRevisionDate: 17-Jul-2002; LatestRevisionNote: Re-released for DXP Platform.; PackageReference: AXIAL-0.3; Publisher: Altium Limited; PackageDescription: Axial Device, Thru-Hole; 2 Leads; 0.3 in Pin Spacing
simulation model RESISTOR (Resistor)
signal-integrity model Res
footprint Res 0603 (0603 Resistor 0.063W)
footprint Res 0805 (0805 Resistor 0.1W)
footprint Res 1206 (1206 Resistor 0.125W)
footprint Res 1210 (1210 Resistor 0.25W)
footprint Res 0.25W (Resistor 0.25W)
footprint Res 2W (Resistor 2W)
footprint Res 5W Square (Resistor 5W Square)
footprint Res 15W (Resistor 15W)
footprint Res 5W (Resistor 5W)
footprint RES 5W VERT
footprint Res 0.5W (Resistor 0.5W)
footprint Res 1W (Resistor 2W)
pins: 1, 2

## Res 0.5W
designator R?, comment 0.5W  value 1K
Resistor 0.5W; Published: 8-Jun-2000; LatestRevisionDate: 17-Jul-2002; LatestRevisionNote: Re-released for DXP Platform.; PackageReference: AXIAL-0.3; Publisher: Altium Limited; PackageDescription: Axial Device, Thru-Hole; 2 Leads; 0.3 in Pin Spacing
simulation model RESISTOR (Resistor)
signal-integrity model Res
footprint Res 0.5W (Resistor 0.5W)
pins: 1, 2

## Res 0.25W
designator R?, comment 0.25W  value 1K
Resistor 0.25W; Published: 8-Jun-2000; LatestRevisionDate: 17-Jul-2002; LatestRevisionNote: Re-released for DXP Platform.; PackageReference: AXIAL-0.3; Publisher: Altium Limited; PackageDescription: Axial Device, Thru-Hole; 2 Leads; 0.3 in Pin Spacing
simulation model RESISTOR (Resistor)
signal-integrity model Res
footprint Res 0.25W (Resistor 0.25W)
pins: 1, 2

## Res 1W
designator R?, comment 1W  value 1K
Resistor 1W; Published: 8-Jun-2000; LatestRevisionDate: 17-Jul-2002; LatestRevisionNote: Re-released for DXP Platform.; PackageReference: AXIAL-0.3; Publisher: Altium Limited; PackageDescription: Axial Device, Thru-Hole; 2 Leads; 0.3 in Pin Spacing
simulation model RESISTOR (Resistor)
signal-integrity model Res
footprint Res 1W (Resistor 2W)
footprint Res 2W Vert (Diode, Thru-Hole; 2 Leads; 0.4 in Pin Spacing)
pins: 1, 2

## Res 2W
designator R?, comment 2W  value 1K
Resistor 2W; Published: 8-Jun-2000; LatestRevisionDate: 17-Jul-2002; LatestRevisionNote: Re-released for DXP Platform.; PackageReference: AXIAL-0.3; Publisher: Altium Limited; PackageDescription: Axial Device, Thru-Hole; 2 Leads; 0.3 in Pin Spacing
simulation model RESISTOR (Resistor)
signal-integrity model Res
footprint Res 2W (Resistor 2W)
footprint Res 2W Vert (Diode, Thru-Hole; 2 Leads; 0.4 in Pin Spacing)
pins: 1, 2

## Res 3W
designator R?, comment 3W  value 1K
Resistor 3W; Published: 8-Jun-2000; LatestRevisionDate: 17-Jul-2002; LatestRevisionNote: Re-released for DXP Platform.; PackageReference: AXIAL-0.3; Publisher: Altium Limited; PackageDescription: Axial Device, Thru-Hole; 2 Leads; 0.3 in Pin Spacing
simulation model RESISTOR (Resistor)
signal-integrity model Res
footprint Res 3W (Resistor 3W)
footprint Res 2W Vert (Diode, Thru-Hole; 2 Leads; 0.4 in Pin Spacing)
pins: 1, 2

## Res 4W
designator R?, comment 4W  value 1K
Resistor 4W; Published: 8-Jun-2000; LatestRevisionDate: 17-Jul-2002; LatestRevisionNote: Re-released for DXP Platform.; PackageReference: AXIAL-0.3; Publisher: Altium Limited; PackageDescription: Axial Device, Thru-Hole; 2 Leads; 0.3 in Pin Spacing
simulation model RESISTOR (Resistor)
signal-integrity model Res
footprint Res 4W (Resistor 5W)
footprint Res 2W Vert (Diode, Thru-Hole; 2 Leads; 0.4 in Pin Spacing)
pins: 1, 2

## Res 5W
designator R?, comment 5W  value 1K
Resistor 5W; Published: 8-Jun-2000; LatestRevisionDate: 17-Jul-2002; LatestRevisionNote: Re-released for DXP Platform.; PackageReference: AXIAL-0.3; Publisher: Altium Limited; PackageDescription: Axial Device, Thru-Hole; 2 Leads; 0.3 in Pin Spacing
simulation model RESISTOR (Resistor)
signal-integrity model Res
footprint Res 5W Square (Resistor 5W Square)
footprint RES 5W
footprint RES 5W VERT
pins: 1, 2

## Res 603
designator R?, comment 603  value 1K
Resistor 603; Published: 8-Jun-2000; LatestRevisionDate: 17-Jul-2002; LatestRevisionNote: Re-released for DXP Platform.; PackageReference: AXIAL-0.3; Publisher: Altium Limited; PackageDescription: Axial Device, Thru-Hole; 2 Leads; 0.3 in Pin Spacing
simulation model RESISTOR (Resistor)
signal-integrity model Res
footprint Res 0603 (0603 Resistor 0.063W)
pins: 1, 2

## Res 805
designator R?, comment 805  value 1K
Resistor 805; Published: 8-Jun-2000; LatestRevisionDate: 17-Jul-2002; LatestRevisionNote: Re-released for DXP Platform.; PackageReference: AXIAL-0.3; Publisher: Altium Limited; PackageDescription: Axial Device, Thru-Hole; 2 Leads; 0.3 in Pin Spacing
simulation model RESISTOR (Resistor)
signal-integrity model Res
footprint Res 0805 (0805 Resistor 0.1W)
pins: 1, 2

## Res 1206
designator R?, comment 1206  value 1K
Resistor 1206; Published: 8-Jun-2000; LatestRevisionDate: 17-Jul-2002; LatestRevisionNote: Re-released for DXP Platform.; PackageReference: AXIAL-0.3; Publisher: Altium Limited; PackageDescription: Axial Device, Thru-Hole; 2 Leads; 0.3 in Pin Spacing
simulation model RESISTOR (Resistor)
signal-integrity model Res
footprint Res 1206 (1206 Resistor 0.125W)
pins: 1, 2

## Res 1210
designator R?, comment 1210  value 1K
Resistor 1210; Published: 8-Jun-2000; LatestRevisionDate: 17-Jul-2002; LatestRevisionNote: Re-released for DXP Platform.; PackageReference: AXIAL-0.3; Publisher: Altium Limited; PackageDescription: Axial Device, Thru-Hole; 2 Leads; 0.3 in Pin Spacing
simulation model RESISTOR (Resistor)
signal-integrity model Res
footprint Res 1210 (1210 Resistor 0.25W)
pins: 1, 2

## SCR
designator Q?
Silicon Controlled Rectifier; Published: 8-Jun-2000; LatestRevisionDate: 17-Jul-2002; LatestRevisionNote: Re-released for DXP Platform.; PackageReference: TO-220-AB; Publisher: Altium Limited; Code_JEDEC: TO-220-AB
footprint TO-220-AB (TO, Thru-Hole, Vertical, Heatsink Mounted; 3 In-Line Leads; Pitch 2.54 mm)
simulation model SCR (Spice Subcircuit)
pins: 1 A, 2 G, 3 K

## SIM Card Holder
designator Con?, comment CON
SIM Card, 6-Pin; LatestRevisionDate: 17-Jul-2002; LatestRevisionNote: Re-released for DXP Platform.; Publisher: Altium Limited
signal-integrity model Connector
footprint SIM CARD Molex (SIM Card Connector)
footprint SIM CARD Amphenol Simlock (SIM Card Connector)
footprint SIM Mini (Small SIM connector without locking)
pins: 1 Vcc, 2 RST, 3 CLK, 4 GND, 5 Vpp, 6 IO

## SN75176
designator U?
RS485 Driver; Published: 17-Jul-2002; LatestRevisionDate: 06-Jun-2005; LatestRevisionNote: Stylized 3D Model Added; DatasheetVersion: 1989; PackageReference: 620-09; Publisher: Altium Limited; PackageDescription: DIP; 16 Leads; Row Spacing 7.62 mm; Pitch 2.54 mm; Code_JEDEC: MS-001-BB; ComponentLink1Description: Manufacturer Link; ComponentLink1URL: http://www.onsemi.com/site/products/parametrics/0,4446,557,00.html
footprint DIP-8 (DIP; 8 Leads; Row Spacing 7.62 mm; Pitch 2.54 mm)
footprint SOIC 8 (SOIC, 8-Leads, Body 5.0x4.0mm (max), Pitch 1.27mm, IPC Medium Density)
pins: 1 Do (out), 2 ~{RxEn} (in), 3 TxEn (in), 4 Di (in), 5 GND (power), 6 A (io), 7 B (io), 8 VCC (power)

## Speaker
designator LS?
Loudspeaker; Published: 24-Mar-1999; LatestRevisionDate: 17-Jul-2002; LatestRevisionNote: Re-released for DXP Platform.; PackageReference: PIN2; Publisher: Altium Limited
footprint PIN2 (Loudspeaker; 2 Leads)
pins: 1, 2

## Stepper Driver
designator U?, comment Stepper
footprint Stepper Drive 8825 (Stepper Drive)
pins: 1 En, 2 Mode0, 3 Mode1, 4 Mode2, 5 Rst, 6 Sleep, 7 Step, 8 Dir, 9 VDrv, 10 Gnd, 11 2B, 12 1B, 13 1A, 14 2A, 15 Fault, 16 Gnd

## SW DIP-2
designator S?
DIP Switch, 2 Position, SPST; Published: 24-Mar-1999; LatestRevisionDate: 17-Jul-2002; LatestRevisionNote: Re-released for DXP Platform.; PackageReference: DIP-4; Publisher: Altium Limited
footprint DIP-4 (DIP; 4 Leads; Row Spacing 7.62 mm; Pitch 2.54 mm)
simulation model dpsw2 (Spice Subcircuit)
pins: 1 A1, 2 A2, 3 B2, 4 B1

## SW DIP-3
designator S?
DIP Switch, 3 Position, SPST; Published: 24-Mar-1999; LatestRevisionDate: 17-Jul-2002; LatestRevisionNote: Re-released for DXP Platform.; PackageReference: DIP-6; Publisher: Altium Limited; Code_JEDEC: MO-001-AM
footprint DIP-6 (DIP; 6 Leads; Row Spacing 7.62 mm; Pitch 2.54 mm)
simulation model dpsw3 (Spice Subcircuit)
pins: 1 A1, 2 A2, 3 A3, 4 B3, 5 B2, 6 B1

## SW DIP-4
designator S?
DIP Switch, 4 Position, SPST; Published: 24-Mar-1999; LatestRevisionDate: 29-May-2009; LatestRevisionNote: IPC-7351 Footprint Added.; PackageVersion: Dec-2002; PackageReference: SO8; Publisher: Altium Limited; PackageDescription: 8-Pin Small Outline Integrated Circuit 1.27 mm Pitch; Code_JEDEC: MS-012-AA; Code_IPC: SOIC127P600-8
footprint SO8_N (SOIC, 8-Leads, Body 4.9x3.9mm, Pitch 1.27mm, IPC Medium Density)
footprint SO8_L (SOIC, 8-Leads, Body 4.9x3.9mm, Pitch 1.27mm, IPC High Density)
footprint SO8_M (SOIC, 8-Leads, Body 4.9x3.9mm, Pitch 1.27mm, IPC Low Density)
simulation model dpsw4 (Spice Subcircuit)
pins: 1 A1, 2 A2, 3 A3, 4 A4, 5 B4, 6 B3, 7 B2, 8 B1

## SW DIP-5
designator S?
DIP Switch, 5 Position, SPST; Published: 24-Mar-1999; LatestRevisionDate: 17-Jul-2002; LatestRevisionNote: Re-released for DXP Platform.; PackageReference: N10A; Publisher: Altium Limited
footprint N10A (DIP; 10 Leads; Row Spacing 7.62 mm; Pitch 2.54 mm)
simulation model dpsw5 (Spice Subcircuit)
pins: 1 A1, 2 A2, 3 A3, 4 A4, 5 A5, 6 B5, 7 B4, 8 B3, 9 B2, 10 B1

## SW DIP-6
designator S?
DIP Switch, 6 Position, SPST; Published: 24-Mar-1999; LatestRevisionDate: 17-Jul-2002; LatestRevisionNote: Re-released for DXP Platform.; PackageReference: DIP-12/SW; Publisher: Altium Limited; PackageDescription: DIP Switch; 12 Leads
footprint DIP-12/SW (DIP Switch; 12 Leads)
simulation model dpsw6 (Spice Subcircuit)
pins: 1 A1, 2 A2, 3 A3, 4 A4, 5 A5, 6 A6, 7 B6, 8 B5, 9 B4, 10 B3, 11 B2, 12 B1

## SW DIP-7
designator S?
DIP Switch, 7 Position, SPST; Published: 24-Mar-1999; LatestRevisionDate: 17-Jul-2002; LatestRevisionNote: Re-released for DXP Platform.; PackageReference: DIP-14; Publisher: Altium Limited; Code_JEDEC: MO-001-AF
footprint DIP-14 (DIP; 14 Leads; Row Spacing 7.62 mm; Pitch 2.54 mm)
simulation model dpsw7 (Spice Subcircuit)
pins: 1 A1, 2 A2, 3 A3, 4 A4, 5 A5, 6 A6, 7 A7, 8 B7, 9 B6, 10 B5, 11 B4, 12 B3, 13 B2, 14 B1

## SW DIP-8
designator S?
DIP Switch, 8 Position, SPST; Published: 24-Mar-1999; LatestRevisionDate: 17-Jul-2002; LatestRevisionNote: Re-released for DXP Platform.; PackageReference: DIP_SW_8WAY_SMD; Publisher: Altium Limited; PackageDescription: DIP Switch; 16 Leads
footprint DIP_SW_8WAY_SMD (DIP Switch; 16 Leads)
simulation model dpsw8 (Spice Subcircuit)
pins: 1 A1, 2 A2, 3 A3, 4 A4, 5 A5, 6 A6, 7 A7, 8 A8, 9 B8, 10 B7, 11 B6, 12 B5, 13 B4, 14 B3, 15 B2, 16 B1

## SW Double Pole
designator Rel?, comment Double pole
Switch; Published: 24-Mar-1999; LatestRevisionDate: 17-Jul-2002; LatestRevisionNote: Re-released for DXP Platform.; PackageReference: SPST-2; Publisher: Altium Limited; PackageDescription: Switch; 2 Leads
footprint CON Term 2 (Terminal Block, 2 pin, 5.08mm)
footprint Button Tack 5mm SMD (Axial Device, Thru-Hole; 2 Leads; 10.2mm Pin Spacing)
footprint Button Tack 5mm SMD Low Profile (Axial Device, Thru-Hole; 2 Leads; 10.2mm Pin Spacing)
pins: 1, 2, 2

## SW Rocker
designator S?
Switch; Published: 24-Mar-1999; LatestRevisionDate: 17-Jul-2002; LatestRevisionNote: Re-released for DXP Platform.; PackageReference: SPST-2; Publisher: Altium Limited; PackageDescription: Switch; 2 Leads
footprint SWITCH ROCK (Slide Switch DPDT)
pins: 1, 2

## SW Single Pole
designator S?, comment SW Toggle
Switch; Published: 24-Mar-1999; LatestRevisionDate: 17-Jul-2002; LatestRevisionNote: Re-released for DXP Platform.; PackageReference: SPST-2; Publisher: Altium Limited; PackageDescription: Switch; 2 Leads
footprint CON Term 2 (Terminal Block, 2 pin, 5.08mm)
footprint Button Tack 5mm SMD (Axial Device, Thru-Hole; 2 Leads; 10.2mm Pin Spacing)
footprint Button Tack 5mm SMD Low Profile (Axial Device, Thru-Hole; 2 Leads; 10.2mm Pin Spacing)
pins: 1, 2

## SW Slide Double Pole
designator Sw?, comment Sw
footprint SWITCH DPDT SLIDE B1558 (Slide Switch DPDT)
pins: 1, 2, 3, 4, 5, 6

## SW Toggle
designator S?
Switch; Published: 24-Mar-1999; LatestRevisionDate: 17-Jul-2002; LatestRevisionNote: Re-released for DXP Platform.; PackageReference: SPST-2; Publisher: Altium Limited; PackageDescription: Switch; 2 Leads
footprint CON Term 2 (Terminal Block, 2 pin, 5.08mm)
footprint Button Tack 5mm SMD (Axial Device, Thru-Hole; 2 Leads; 10.2mm Pin Spacing)
footprint Button Tack 5mm SMD Low Profile (Axial Device, Thru-Hole; 2 Leads; 10.2mm Pin Spacing)
pins: 1, 2

## Trans
designator T?
Transformer; Published: 24-Mar-1999; LatestRevisionDate: 08-Jul-2005; LatestRevisionNote: Mech Layer 1 removed.; PackageReference: TRANS; Publisher: Altium Limited; PackageDescription: Transformer; 4 Leads
footprint TRANS (Transformer; 4 Leads)
simulation model TRANSFORMER (Transformer)
pins: 1, 2, 3, 4

## Trans CT
designator T?
Center-Tapped Transformer (Coupled Inductor Model); Published: 8-Jun-2000; LatestRevisionDate: 17-Jul-2002; LatestRevisionNote: Re-released for DXP Platform.; PackageReference: TRF_5; Publisher: Altium Limited; PackageDescription: Transformer; 5 Leads
footprint TRF_5 (Transformer; 5 Leads)
simulation model TRANSFORMER (Transformer)
pins: 1 Pri+, 2 Pri-, 3 Sec+, 4 SecCT, 5 Sec-

## Trans_Splitrail
designator T?
Transformer; Published: 24-Mar-1999; LatestRevisionDate: 08-Jul-2005; LatestRevisionNote: Mech Layer 1 removed.; PackageReference: TRANS; Publisher: Altium Limited; PackageDescription: Transformer; 4 Leads
simulation model TRANSFORMER (Transformer)
footprint Transformer 2VA PCB (Thru-Hole; 3 Leads)
pins: 1, 2, 3, 4, 5, 6

## Tranzorb
designator D?
Transient Voltage Suppression (TVS) Diode; Published: 24-Mar-1999; LatestRevisionDate: 17-Jul-2002; LatestRevisionNote: Re-released for DXP Platform.; PackageReference: DO-7; Publisher: Altium Limited; PackageDescription: Axial Lead Diode
footprint DO-7 (Diode, Axial; Body 7 x 2.7 mm (LxDia. max), Lead Dia. 0.53 mm (max))
pins: 1 A, 2 K

## Triac
designator Q?
Silicon Bidirectional Triode Thyristor; Note: Pin 2 is electrically connected to Pin 4 (TAB); Published: 29-Sep-2000; LatestRevisionDate: 17-Jul-2002; LatestRevisionNote: Re-released for DXP Platform.; DatasheetVersion: 1999; PackageReference: 369-03; Publisher: Altium Limited; PackageDescription: TO, Thru-Hole, Vertical, Heatsink Mounted; 3 In-Line Leads; Pitch 2.28 mm; ComponentLink1Description: Manufacturer Link; ComponentLink1URL: http://www.motorola.com/
footprint 369-03 (TO, Thru-Hole, Vertical, Heatsink Mounted; 3 In-Line Leads; Pitch 2.28 mm)
simulation model MAC15A8 (Spice Subcircuit)
pins: 1 M1, 2 M2, 3 G

## TRN 2N3904
designator Q?, comment 2N3904
NPN 40V 0.2A SOT23; Published: 8-Jun-2000; LatestRevisionDate: 17-Jul-2002; LatestRevisionNote: Re-released for DXP Platform.; PackageReference: SOT23; Publisher: Altium Limited; PackageDescription: TO, Flat Index; 3 In-Line, Axial Leads; Body Dia. 4.8mm; Leads 0.55 x 0.51 mm (max); Code_JEDEC: TO-226-AA; Supplier 1: Mouser
simulation model NPN
signal-integrity model NPN
footprint SOT23 (SOT23, 3-Leads, Body 2.9x1.3mm, Pitch 0.95mm, Lead Span 2.3mm - Reverse Pinning, IPC Low Density)
pins: 1 C, 2 E, 3 B

## TRN 2N3906
designator Q?, comment 2N3906
PNP 40V 0.2A SOT23; Published: 8-Jun-2000; LatestRevisionDate: 29-May-2009; LatestRevisionNote: IPC-7351 Footprint Added.; PackageVersion: Aug-1999; PackageReference: SOT-23B; Publisher: Altium Limited; PackageDescription: 3-Pin SOT-23 Package 0.95 mm Pitch, 2.4 mm Lead Span; Supplier 1: Mouser
simulation model PNP
signal-integrity model PNP
footprint SOT23 (SOT23, 3-Leads, Body 2.9x1.3mm, Pitch 0.95mm, Lead Span 2.3mm - Reverse Pinning, IPC Low Density)
pins: 1 C, 2 E, 3 B

## TRN 2SA1943
designator Q?, comment 2SA1943
PNP 100V 30A TO247; PackageReference: TO247; Fairchild: PNP 100V 30A
footprint TO 247 (TO, Thru-Hole, Vertical, Heatsink Mounted; 3 In-Line Leads; Pitch 2.54 mm)
pins: 1 B, 2 C, 3 E

## TRN 2SA1987
designator Q?, comment 2SA1987
PNP 100V 30A TO247; PackageReference: TO247; Fairchild: PNP 100V 30A
footprint TO 247 (TO, Thru-Hole, Vertical, Heatsink Mounted; 3 In-Line Leads; Pitch 2.54 mm)
pins: 1 B, 2 C, 3 E

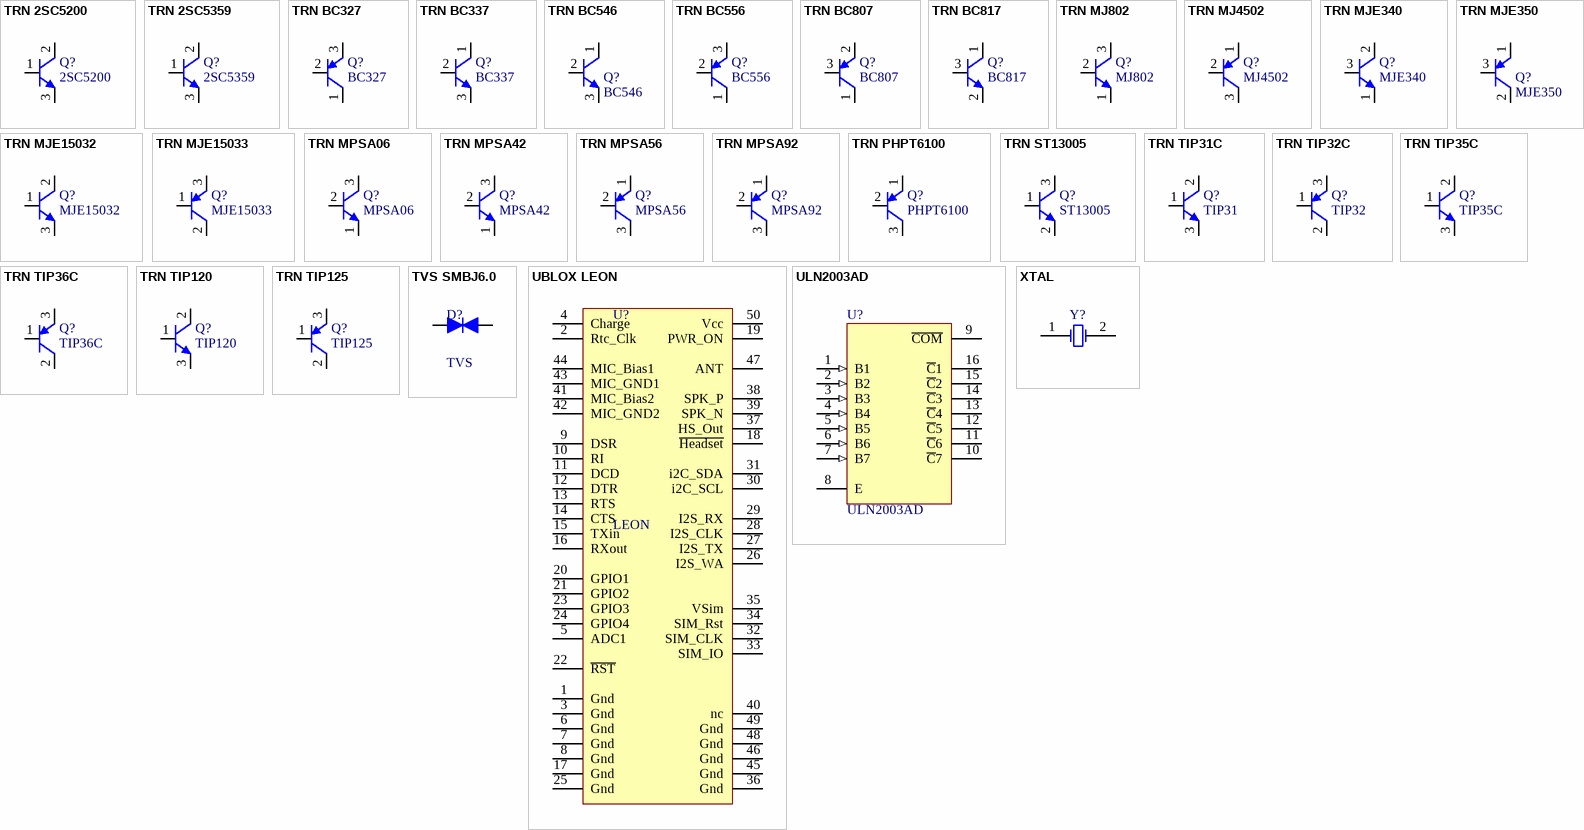
[diagram p6: symbols TRN 2SC5200 to XTAL]

## TRN 2SC5200
designator Q?, comment 2SC5200
NPN 100V 30A TO247; PackageReference: TO247; Fairchild: NPN 100V 30A
footprint TO 247 (TO, Thru-Hole, Vertical, Heatsink Mounted; 3 In-Line Leads; Pitch 2.54 mm)
pins: 1 B, 2 C, 3 E

## TRN 2SC5359
designator Q?, comment 2SC5359
NPN 100V 30A TO247; PackageReference: TO247; Fairchild: NPN 100V 30A
footprint TO 247 (TO, Thru-Hole, Vertical, Heatsink Mounted; 3 In-Line Leads; Pitch 2.54 mm)
pins: 1 B, 2 C, 3 E

## TRN BC327
designator Q?, comment BC327
PNP 45V 0.8A TO92; Published: 8-Jun-2000; LatestRevisionDate: 17-Jul-2002; LatestRevisionNote: Re-released for DXP Platform.; PackageReference: SOT23; Publisher: Altium Limited; PackageDescription: TO, Flat Index; 3 In-Line, Axial Leads; Body Dia. 4.8mm; Leads 0.55 x 0.51 mm (max); Supplier 1: Newark; Supplier Part Number 1: 82C0365
simulation model NPN
signal-integrity model NPN
footprint TO 92 (TO, Flat Index; 3 In-Line, Axial Leads; Body Dia. 4.5mm; Leads 0.51 x 0.48 mm (max))
pins: 1 C, 2 B, 3 E

## TRN BC337
designator Q?, comment BC337
NPN 45V 0.8A TO92; Published: 8-Jun-2000; LatestRevisionDate: 17-Jul-2002; LatestRevisionNote: Re-released for DXP Platform.; PackageReference: SOT23; Publisher: Altium Limited; PackageDescription: TO, Flat Index; 3 In-Line, Axial Leads; Body Dia. 4.8mm; Leads 0.55 x 0.51 mm (max); Supplier 1: Newark; Supplier Part Number 1: 82C0365
simulation model NPN
signal-integrity model NPN
footprint TO 92 (TO, Flat Index; 3 In-Line, Axial Leads; Body Dia. 4.5mm; Leads 0.51 x 0.48 mm (max))
pins: 1 C, 2 B, 3 E

## TRN BC546
designator Q?, comment BC546
NPN 65V 0.1A TO92; Published: 8-Jun-2000; LatestRevisionDate: 17-Jul-2002; LatestRevisionNote: Re-released for DXP Platform.; PackageReference: SOT23; Publisher: Altium Limited; PackageDescription: TO, Flat Index; 3 In-Line, Axial Leads; Body Dia. 4.8mm; Leads 0.55 x 0.51 mm (max); Supplier 1: Newark; Supplier Part Number 1: 82C0365
simulation model NPN
signal-integrity model NPN
footprint TO 92 (TO, Flat Index; 3 In-Line, Axial Leads; Body Dia. 4.5mm; Leads 0.51 x 0.48 mm (max))
pins: 1 C, 2 B, 3 E

## TRN BC556
designator Q?, comment BC556
PNP 65V 0.1A TO92; Published: 8-Jun-2000; LatestRevisionDate: 29-May-2009; LatestRevisionNote: IPC-7351 Footprint Added.; PackageVersion: Aug-1999; PackageReference: SOT-23B; Publisher: Altium Limited; PackageDescription: 3-Pin SOT-23 Package 0.95 mm Pitch, 2.4 mm Lead Span; Supplier 1: Mouser; Supplier Part Number 1: 512-BC556ABU; Supplier 2: Digi-Key; Supplier Part Number 2: BC556ABU-ND
simulation model PNP
signal-integrity model PNP
footprint TO 92 (TO, Flat Index; 3 In-Line, Axial Leads; Body Dia. 4.5mm; Leads 0.51 x 0.48 mm (max))
pins: 1 C, 2 B, 3 E

## TRN BC807
designator Q?, comment BC807
PNP 50V 0.1A SOT23; Published: 8-Jun-2000; LatestRevisionDate: 29-May-2009; LatestRevisionNote: IPC-7351 Footprint Added.; PackageVersion: Aug-1999; PackageReference: SOT-23B; Publisher: Altium Limited; PackageDescription: 3-Pin SOT-23 Package 0.95 mm Pitch, 2.4 mm Lead Span; Supplier 1: Mouser; Supplier Part Number 1: 771-BC807-16W115
simulation model PNP
signal-integrity model PNP
footprint SOT23 (SOT23, 3-Leads, Body 2.9x1.3mm, Pitch 0.95mm, Lead Span 2.3mm - Reverse Pinning, IPC Low Density)
pins: 1 C, 2 E, 3 B

## TRN BC817
designator Q?, comment BC817
NPN 50V 0.1A SOT23; Published: 8-Jun-2000; LatestRevisionDate: 17-Jul-2002; LatestRevisionNote: Re-released for DXP Platform.; PackageReference: SOT23; Publisher: Altium Limited; PackageDescription: TO, Flat Index; 3 In-Line, Axial Leads; Body Dia. 4.8mm; Leads 0.55 x 0.51 mm (max); Code_JEDEC: TO-226-AA; Supplier 1: Mouser; Supplier Part Number 1: 771-BC817-16-T/R
simulation model NPN
signal-integrity model NPN
footprint SOT23 (SOT23, 3-Leads, Body 2.9x1.3mm, Pitch 0.95mm, Lead Span 2.3mm - Reverse Pinning, IPC Low Density)
pins: 1 C, 2 E, 3 B